# Altium footprint library SOD6439X180N.PcbLib: 1 footprints
Each footprint in its own frame and in the unit in brackets; x right, y up, seen from the top. Pads: shape width x height; smd on the part's side, far side on the other; paste and mask are expansions set on the pad; w line width, h text height; cw(c..) or ccw(c..) is an arc to the next point about the centre after c.
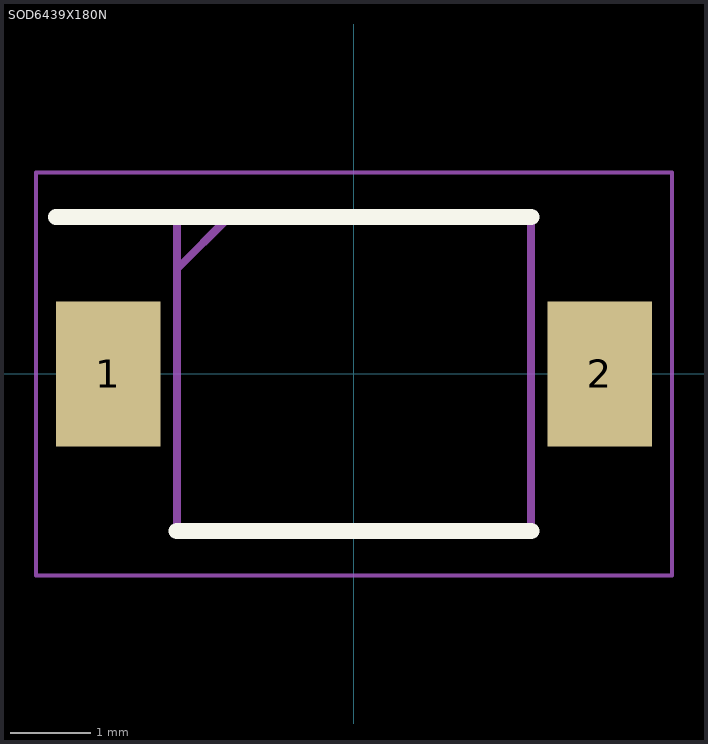
[diagram p0: the footprint, top view; thin cyan lines are the x and y axes]

## SOD6439X180N [mm]
pads (2):
  rect 1.3x1.8 smd: 1(-3.05,0) 2(3.05,0)
Top Overlay:
  lines w0.2: -3.7,1.95 2.2,1.95 ; -2.2,-1.95 2.2,-1.95
Mechanical 15:
  lines w0.1: -2.2,1.3 -1.55,1.95 ; -2.2,-1.95 2.2,-1.95 2.2,1.95 -2.2,1.95 -2.2,-1.95
Mechanical 20:
  lines w0.05: -3.95,-2.5 3.95,-2.5 3.95,2.5 -3.95,2.5 -3.95,-2.5